# EAGLE library part MMA7455L (library 00_koarl-div)
Freescale Digital Ouput Accelerometer
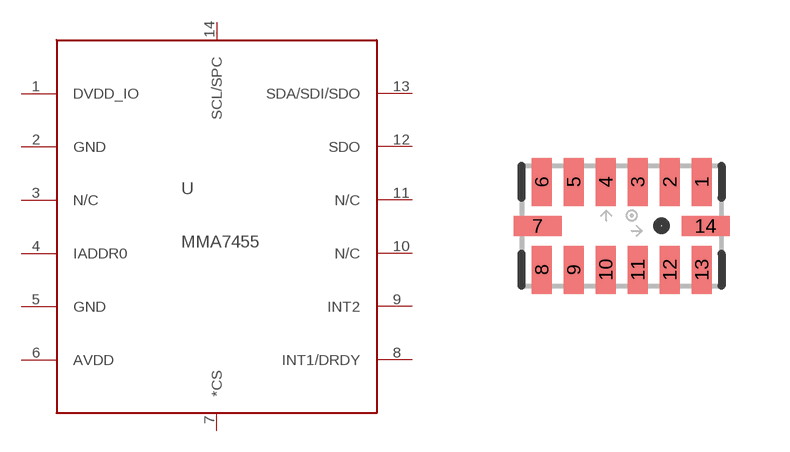
[diagram p8: symbol with the pads of LGA14; footprint LGA14]

Designator prefix U

## MMA7455L  [LGA14]
1  DVDD_IO  pwr
2  GND
3  N/C
4  IADDR0  in
5  GND  pwr
6  AVDD  pwr
7  *CS  in
8  INT1/DRDY  out
9  INT2  out
10  N/C
11  N/C
12  SDO  out
13  SDA/SDI/SDO
14  SCL/SPC  in

## Footprint LGA14 (pad centres in mm)
LGA14
smd 0.5 x 1.2: 1 2,1.1; 2 1.2,1.1; 3 0.4,1.1; 4 -0.4,1.1; 5 -1.2,1.1; 6 -2,1.1; 8 -2,-1.1; 9 -1.2,-1.1; 10 -0.4,-1.1; 11 0.4,-1.1; 12 1.2,-1.1; 13 2,-1.1
smd 1.2 x 0.5: 7 -2.1,0; 14 2.1,0